# Altium footprint library rcl_PTH.PCBLIB: 348 footprints (part 10 of 22)
Each footprint in its own frame and in the unit in brackets; x right, y up, seen from the top. Pads: shape width x height; smd on the part's side, far side on the other; paste and mask are expansions set on the pad; w line width, h text height; cw(c..) or ccw(c..) is an arc to the next point about the centre after c.
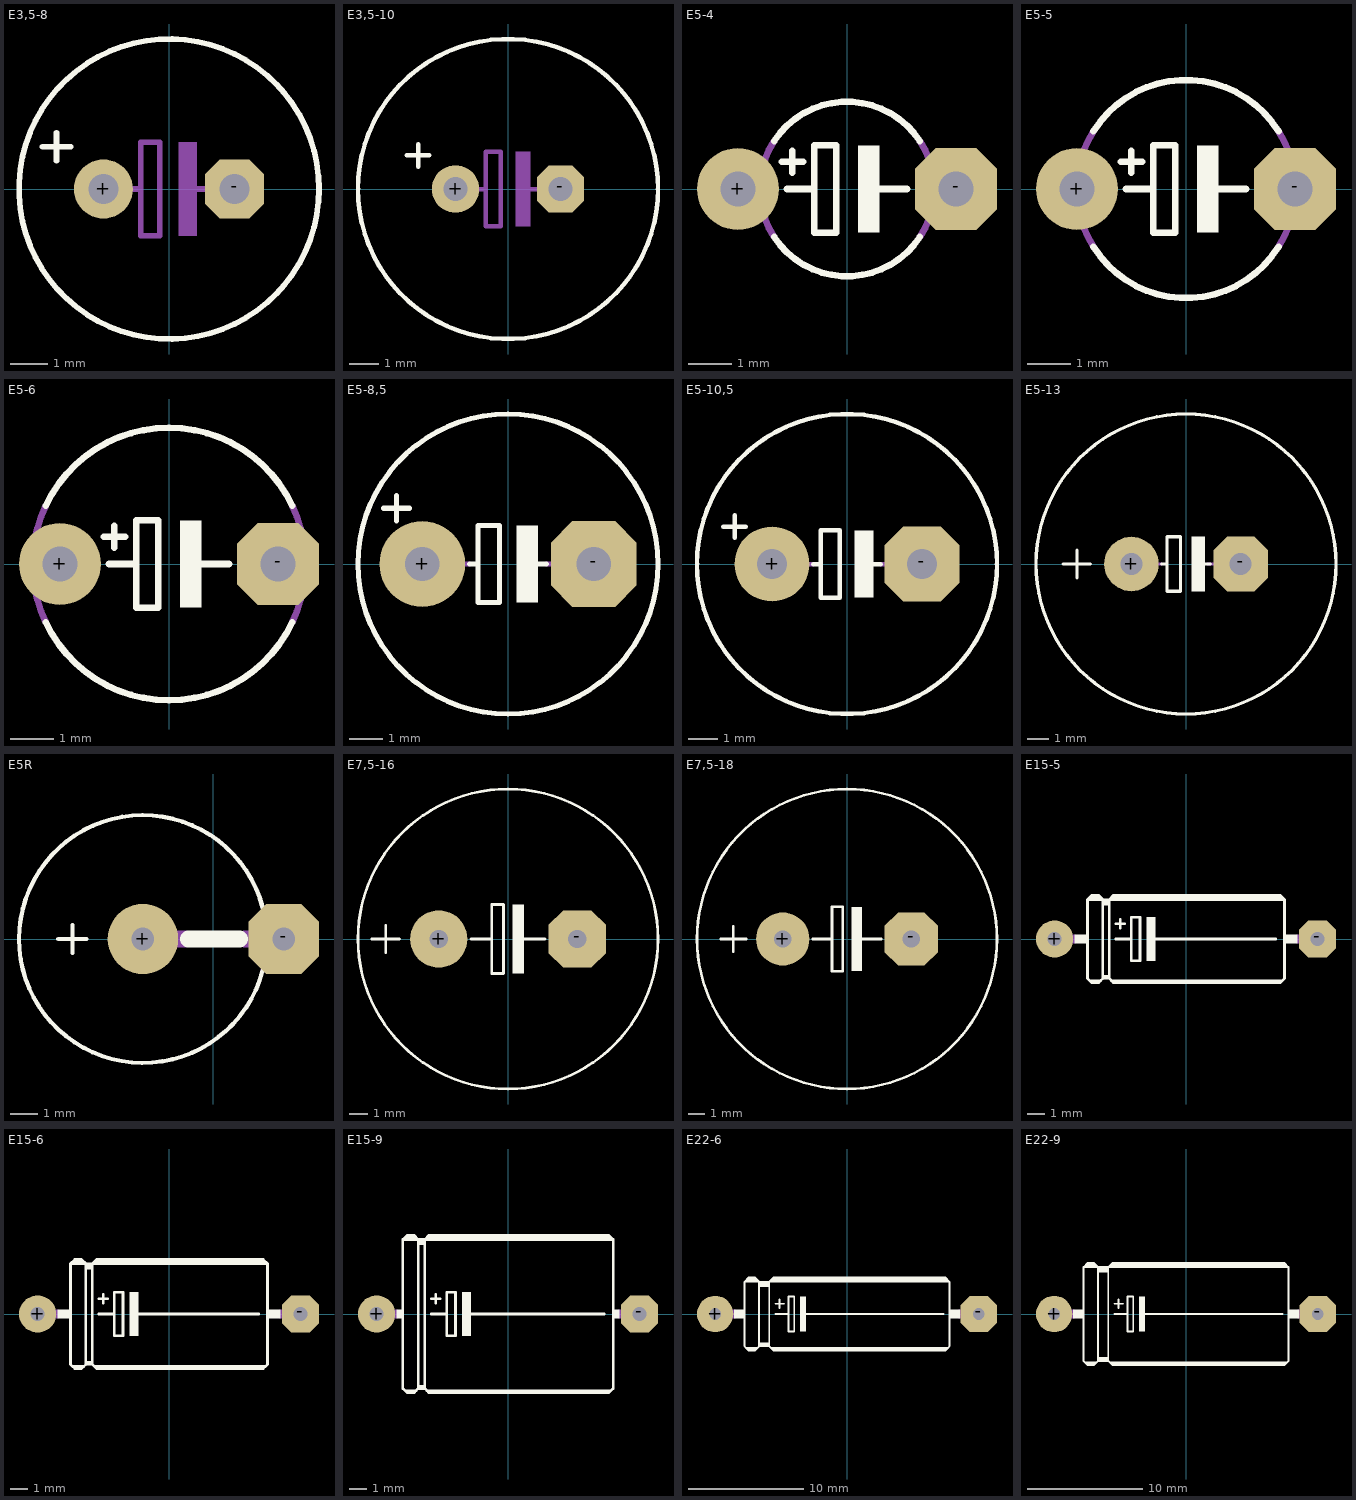
[diagram p9: the footprints below, top view; thin cyan lines are the x and y axes]

## E3,5-8 [mil]
pads (2):
  round 63 hole 32: +(-70,0)
  oct 63x63 hole 32: -(70,0)
Top Overlay:
  circle w6: c0,0 r160
  lines w6: -135,45 -105,45 ; -120,30 -120,60
Mechanical 16:
  rectangle: 10,-50 30,50
  lines w6: -65,0 -30,0 ; 25,0 65,0 ; -30,0 -30,-50 -10,-50 -10,50 -30,50 -30,0
3D body "User Library-CE_R150_D320_H570.step": height 566.93, standoff -114.17, extent -160.84,-158.42 162,164.42

## E3,5-10 [mil]
pads (2):
  round 63 hole 32: +(-70,0)
  oct 63x63 hole 32: -(70,0)
Top Overlay:
  circle w6: c0,0 r200
  lines w6: -135,45 -105,45 ; -120,30 -120,60
Mechanical 16:
  rectangle: 10,-50 30,50
  lines w6: -65,0 -30,0 ; 25,0 65,0 ; -30,0 -30,50 -10,50 -10,-50 -30,-50 -30,0

## E5-4 [mil]
pads (2):
  round 75 hole 32: +(-100,0)
  oct 75x75 hole 32: -(100,0)
Top Overlay:
  rectangle: 10,-40 30,40
  lines w6: -66.87,-43.91 ccw(c0,0) 66.87,-43.91 ; -66.87,43.91 cw(c0,0) 66.87,43.91 ; -60,25 -40,25 ; -55,0 -30,0 ; -50,15 -50,35 ; 25,0 55,0 ; -30,0 -30,-40 -10,-40 -10,40 -30,40 -30,0
Mechanical 16:
  lines w6: -66.87,-43.91 cw(c0,0) -66.87,43.91 ; 66.87,-43.91 ccw(c0,0) 66.87,43.91

## E5-5 [mil]
pads (2):
  round 75 hole 32: +(-100,0)
  oct 75x75 hole 32: -(100,0)
Top Overlay:
  rectangle: 10,-40 30,40
  lines w6: -84.87,-52.88 ccw(c0,0) 84.87,-52.88 ; -84.87,52.88 cw(c0,0) 84.87,52.88 ; -60,25 -40,25 ; -55,0 -30,0 ; -50,15 -50,35 ; 25,0 55,0 ; -30,0 -30,-40 -10,-40 -10,40 -30,40 -30,0
Mechanical 16:
  lines w6: -84.87,-52.88 cw(c0,0) -84.87,52.88 ; 84.87,-52.88 ccw(c0,0) 84.87,52.88

## E5-6 [mil]
pads (2):
  round 75 hole 32: +(-100,0)
  oct 75x75 hole 32: -(100,0)
Top Overlay:
  rectangle: 10,-40 30,40
  lines w6: -113,-53.44 ccw(c0,0) 113,-53.44 ; -113,53.44 cw(c0,0) 113,53.44 ; -60,25 -40,25 ; -55,0 -30,0 ; -50,15 -50,35 ; 25,0 55,0 ; -30,0 -30,-40 -10,-40 -10,40 -30,40 -30,0
Mechanical 16:
  lines w6: -113,-53.44 cw(c0,0) -113,53.44 ; 113,-53.44 ccw(c0,0) 113,53.44

## E5-8,5 [mil]
pads (2):
  round 100 hole 40: +(-100,0)
  oct 100x100 hole 40: -(100,0)
Top Overlay:
  circle w6: c0,0 r175
  rectangle: 10,-45 35,45
  lines w6: -145,65 -115,65 ; -130,50 -130,80 ; -45,0 -35,0 ; 25,0 45,0 ; -35,0 -35,-45 -10,-45 -10,45 -35,45 -35,0
Mechanical 16:
  lines w6: -65,0 -45,0 ; 45,0 65,0

## E5-10,5 [mil]
pads (2):
  round 100 hole 40: +(-100,0)
  oct 100x100 hole 40: -(100,0)
Top Overlay:
  circle w6: c0,0 r200
  rectangle: 10,-45 35,45
  lines w6: -165,50 -135,50 ; -150,35 -150,65 ; -45,0 -35,0 ; 25,0 45,0 ; -35,0 -35,45 -10,45 -10,-45 -35,-45 -35,0
Mechanical 16:
  lines w6: -65,0 -45,0 ; 45,0 65,0
3D body "User Library-CE_R200_D400_H500.step": height 500, standoff -106.3, extent -199,-199.98 201,199.99

## E5-13 [mil]
pads (2):
  round 100 hole 40: +(-100,0)
  oct 100x100 hole 40: -(100,0)
Top Overlay:
  circle w6: c0,0 r275
  rectangle: 10,-50 35,50
  lines w6: -225,0 -175,0 ; -200,-25 -200,25 ; -45,0 -35,0 ; 25,0 45,0 ; -35,0 -35,50 -10,50 -10,-50 -35,-50 -35,0
Mechanical 16:
  lines w6: -65,0 -45,0 ; 40,0 60,0

## E5R [mil]
pads (2):
  round 100 hole 32: +(-100,0)
  oct 100x100 hole 32: -(100,0)
Top Overlay:
  lines w6: -220,0 -180,0 ; -200,-20 -200,20 ; 70,-45 cw(c-100,0) 70.16,44.39
  lines w24: -35,0 37,0
Mechanical 16:
  lines w6: 69.81,45.72 cw(c-100,0) 70,-45
  lines w24: -100,0 -40,0 ; 45,0 100,0

## E7,5-16 [mil]
pads (2):
  round 124 hole 40: +(-150,0)
  oct 124x124 hole 40: -(150,0)
Top Overlay:
  circle w6: c0,0 r325
  rectangle: 10,-75 35,75
  lines w6: -295,0 -235,0 ; -265,-30 -265,30 ; -80,0 -35,0 ; 25,0 80,0 ; -35,0 -35,75 -10,75 -10,-75 -35,-75 -35,0
3D body "User Library-CE_R300_D650_H1000.step": height 1000, standoff -137.8, extent -324.8,-323.79 324.8,325.8

## E7,5-18 [mil]
pads (2):
  round 124 hole 40: +(-150,0)
  oct 124x124 hole 40: -(150,0)
Top Overlay:
  circle w6: c0,0 r350
  rectangle: 10,-75 35,75
  lines w6: -295,0 -235,0 ; -265,-30 -265,30 ; -80,0 -35,0 ; 25,0 80,0 ; -35,0 -35,75 -10,75 -10,-75 -35,-75 -35,0

## E15-5 [mil]
pads (2):
  round 85 hole 32: +(-300,0)
  oct 85x85 hole 32: -(300,0)
Top Overlay:
  rectangle: 225,-10 255,10
  rectangle: -255,-10 -225,10
  rectangle: -90,-50 -70,50
  lines w6: -200,-98 -215,-98 -215,-100 ; -160,0 -125,0 ; -160,35 -140,35 ; -150,25 -150,45 ; -75,0 205,0 ; 215,-98 -165,-98 -165,-100 ; -225,90 -190,90 ; -225,90 -215,100 -200,100 -190,90 ; -225,90 -225,-90 -220,-95 ; -220,-95 -195,-95 ; -220,-95 -215,-100 ; -215,-100 -200,-100 -195,-95 ; -195,-95 -190,-90 ; -190,-90 -190,-88 ; -190,-90 -175,-90 ; -190,-88 -175,-88 ; -190,-88 -190,-85 ; -190,-85 -175,-85 ; -190,-85 -190,80 ; -190,80 -175,80 ; -190,80 -190,90 ; -190,90 -175,90 ; -175,-90 -175,-88 ; -175,-90 -170,-95 ; -175,-88 -175,-85 ; -175,-85 -175,80 ; -175,80 -175,90 ; -175,90 225,90 ; -175,90 -165,100 215,100 225,90 ; -170,-95 220,-95 ; -170,-95 -165,-100 ; -165,-100 215,-100 220,-95 ; -125,0 -125,50 -105,50 -105,-50 -125,-50 -125,0 ; 220,-95 225,-90 225,90
  lines w12: -215,95 -200,95 ; -185,85 -180,85 ; -165,95 215,95
Mechanical 16:
  lines w20: -300,0 -255,0 ; 255,0 300,0

## E15-6 [mil]
pads (2):
  round 85 hole 32: +(-300,0)
  oct 85x85 hole 32: -(300,0)
Top Overlay:
  rectangle: 225,-10 255,10
  rectangle: -255,-10 -225,10
  rectangle: -90,-50 -70,50
  lines w6: -200,-123 -215,-123 -215,-125 ; -160,0 -125,0 ; -160,35 -140,35 ; -150,25 -150,45 ; -75,0 205,0 ; 215,-123 -165,-123 -165,-125 ; -225,115 -190,115 ; -225,115 -215,125 -200,125 -190,115 ; -225,115 -225,-115 -220,-120 ; -220,-120 -195,-120 ; -220,-120 -215,-125 ; -215,-125 -200,-125 -195,-120 ; -195,-120 -190,-115 ; -190,-115 -190,-113 ; -190,-115 -175,-115 ; -190,-113 -175,-113 ; -190,-113 -190,-110 ; -190,-110 -175,-110 ; -190,-110 -190,105 ; -190,105 -175,105 ; -190,105 -190,115 ; -190,115 -175,115 ; -175,-115 -175,-113 ; -175,-115 -170,-120 ; -175,-113 -175,-110 ; -175,-110 -175,105 ; -175,105 -175,115 ; -175,115 225,115 ; -175,115 -165,125 215,125 225,115 ; -170,-120 220,-120 ; -170,-120 -165,-125 ; -165,-125 215,-125 220,-120 ; -125,0 -125,50 -105,50 -105,-50 -125,-50 -125,0 ; 220,-120 225,-115 225,115
  lines w12: -215,120 -200,120 ; -185,110 -180,110 ; -165,120 215,120
Mechanical 16:
  lines w20: -300,0 -255,0 ; 255,0 300,0

## E15-9 [mil]
pads (2):
  round 85 hole 32: +(-300,0)
  oct 85x85 hole 32: -(300,0)
Top Overlay:
  rectangle: -255,-10 -240,10
  rectangle: 240,-10 255,10
  rectangle: -105,-50 -85,50
  lines w6: -215,-178 -230,-178 -230,-180 ; -175,0 -140,0 ; -175,35 -155,35 ; -165,25 -165,45 ; -90,0 220,0 ; 230,-178 -180,-178 -180,-180 ; -240,170 -205,170 ; -240,170 -230,180 -215,180 -205,170 ; -240,170 -240,-170 -235,-175 ; -235,-175 -210,-175 ; -235,-175 -230,-180 ; -230,-180 -215,-180 -210,-175 ; -210,-175 -205,-170 ; -205,-170 -205,-168 ; -205,-170 -190,-170 ; -205,-168 -190,-168 ; -205,-168 -205,-165 ; -205,-165 -190,-165 ; -205,-165 -205,160 ; -205,160 -190,160 ; -205,160 -205,170 ; -205,170 -190,170 ; -190,-170 -190,-168 ; -190,-170 -185,-175 ; -190,-168 -190,-165 ; -190,-165 -190,160 ; -190,160 -190,170 ; -190,170 240,170 ; -190,170 -180,180 230,180 240,170 ; -185,-175 235,-175 ; -185,-175 -180,-180 ; -180,-180 230,-180 235,-175 ; -140,0 -140,50 -120,50 -120,-50 -140,-50 -140,0 ; 235,-175 240,-170 240,170
  lines w12: -230,175 -215,175 ; -200,165 -195,165 ; -180,175 230,175
Mechanical 16:
  lines w20: -300,0 -255,0 ; 255,0 300,0

## E22-6 [mil]
pads (2):
  round 124 hole 40: +(-450,0)
  oct 124x124 hole 40: -(450,0)
Top Overlay:
  rectangle: 350,-15 385,15
  rectangle: -385,-15 -350,15
  rectangle: -160,-60 -140,60
  lines w6: -245,0 -200,0 ; -245,35 -215,35 ; -230,20 -230,50 ; -145,0 330,0 ; -350,110 -300,110 ; -350,110 -335,125 -315,125 -300,110 ; -350,110 -350,-110 -345,-115 ; -345,-115 -335,-125 -315,-125 -305,-115 ; -345,-115 -305,-115 ; -305,-115 -300,-110 ; -300,-110 -265,-110 ; -300,-110 -300,-100 ; -300,-100 -300,95 ; -300,-100 -265,-100 ; -300,95 -265,95 ; -300,95 -300,110 ; -300,110 -265,110 ; -265,-110 -265,-100 ; -265,-110 -260,-115 ; -265,-100 -265,95 ; -265,95 -265,110 ; -265,110 350,110 ; -265,110 -250,125 335,125 350,110 ; -260,-115 345,-115 ; -260,-115 -250,-125 335,-125 345,-115 ; -200,0 -200,-60 -180,-60 -180,60 -200,60 -200,0 ; 345,-115 350,-110 350,110
  lines w10: -335,-120 -315,-120 ; -295,-105 -270,-105 ; -250,-120 335,-120
  lines w12: -340,115 -310,115 ; -335,120 -315,120 ; -295,100 -270,100 ; -295,105 -270,105 ; -255,115 340,115 ; -250,120 335,120
Mechanical 16:
  lines w30: -450,0 -385,0 ; 385,0 450,0

## E22-9 [mil]
pads (2):
  round 124 hole 40: +(-450,0)
  oct 124x124 hole 40: -(450,0)
Top Overlay:
  rectangle: -160,-60 -140,60
  rectangle: -385,-15 -350,15
  rectangle: 350,-15 385,15
  lines w6: -245,0 -200,0 ; -245,35 -215,35 ; -230,20 -230,50 ; -145,0 330,0 ; -350,160 -350,-160 -345,-165 ; -350,160 -335,175 -315,175 -300,160 ; -350,160 -300,160 ; -345,-165 -305,-165 ; -345,-165 -335,-175 -315,-175 -305,-165 ; -305,-165 -300,-160 ; -300,-160 -300,-150 ; -300,-160 -265,-160 ; -300,-150 -265,-150 ; -300,-150 -300,145 ; -300,145 -300,160 ; -300,145 -265,145 ; -300,160 -265,160 ; -265,-160 -260,-165 ; -265,-160 -265,-150 ; -265,-150 -265,145 ; -265,145 -265,160 ; -265,160 -250,175 335,175 350,160 ; -265,160 350,160 ; -260,-165 -250,-175 335,-175 345,-165 ; -260,-165 345,-165 ; -200,0 -200,60 -180,60 -180,-60 -200,-60 -200,0 ; 345,-165 350,-160 350,160
  lines w10: -335,-170 -315,-170 ; -295,-155 -270,-155 ; -250,-170 335,-170
  lines w12: -340,165 -310,165 ; -335,170 -315,170 ; -295,150 -270,150 ; -295,155 -270,155 ; -255,165 340,165 ; -250,170 335,170
Mechanical 16:
  lines w30: -450,0 -385,0 ; 385,0 450,0